# EAGLE library part ATMEGA328P-MMH (library Thesis_Lib)
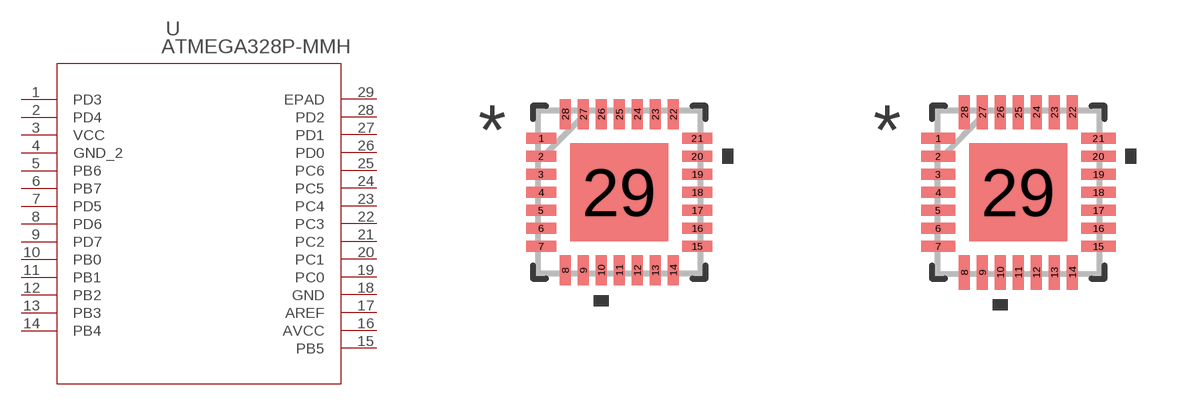
[diagram p6: symbol with the pads of 28M1; footprints 28M1, 28M1-M]

Designator prefix U

## ATMEGA328P-MMH (MANUFACTURER_PART_NUMBER: ATMEGA328PMMH; VENDOR: ATMEL)  [28M1]
1  PD3
2  PD4
3  VCC  pwr
4  GND_2  pwr
5  PB6
6  PB7
7  PD5
8  PD6
9  PD7
10  PB0
11  PB1
12  PB2
13  PB3
14  PB4
15  PB5
16  AVCC  pwr
17  AREF  pas
18  GND  pwr
19  PC0
20  PC1
21  PC2
22  PC3
23  PC4
24  PC5
25  PC6
26  PD0
27  PD1
28  PD2
29  EPAD  pas

## ATMEGA328P-MMH28M1-M (MANUFACTURER_PART_NUMBER: ATMEGA328PMMH; VENDOR: ATMEL)  [28M1-M]
Pads as for 28M1

## ATMEGA328P-MMH28M1-L (MANUFACTURER_PART_NUMBER: ATMEGA328PMMH; VENDOR: ATMEL)  [28M1-L]
Pads as for 28M1

## Footprint 28M1 (pad centres in mm)
smd 0.755 x 0.27: 1 -1.952,1.35; 2 -1.952,0.9; 3 -1.952,0.45; 4 -1.952,0; 5 -1.952,-0.45; 6 -1.952,-0.9; 7 -1.952,-1.35; 15 1.952,-1.35; 16 1.952,-0.9; 17 1.952,-0.45; 18 1.952,0; 19 1.952,0.45; 20 1.952,0.9; 21 1.952,1.35
smd 0.27 x 0.755: 8 -1.35,-1.952; 9 -0.9,-1.952; 10 -0.45,-1.952; 11 0,-1.952; 12 0.45,-1.952; 13 0.9,-1.952; 14 1.35,-1.952; 22 1.35,1.952; 23 0.9,1.952; 24 0.45,1.952; 25 0,1.952; 26 -0.45,1.952; 27 -0.9,1.952; 28 -1.35,1.952
smd 2.45 x 2.45: 29 0,0

## Footprint 28M1-M (pad centres in mm)
smd 0.856 x 0.27: 1 -2.003,1.35; 2 -2.003,0.9; 3 -2.003,0.45; 4 -2.003,0; 5 -2.003,-0.45; 6 -2.003,-0.9; 7 -2.003,-1.35; 15 2.003,-1.35; 16 2.003,-0.9; 17 2.003,-0.45; 18 2.003,0; 19 2.003,0.45; 20 2.003,0.9; 21 2.003,1.35
smd 0.27 x 0.856: 8 -1.35,-2.003; 9 -0.9,-2.003; 10 -0.45,-2.003; 11 0,-2.003; 12 0.45,-2.003; 13 0.9,-2.003; 14 1.35,-2.003; 22 1.35,2.003; 23 0.9,2.003; 24 0.45,2.003; 25 0,2.003; 26 -0.45,2.003; 27 -0.9,2.003; 28 -1.35,2.003
smd 2.45 x 2.45: 29 0,0

## Footprint 28M1-L (pad centres in mm)
smd 0.653 x 0.27: 1 -1.902,1.35; 2 -1.902,0.9; 3 -1.902,0.45; 4 -1.902,0; 5 -1.902,-0.45; 6 -1.902,-0.9; 7 -1.902,-1.35; 15 1.902,-1.35; 16 1.902,-0.9; 17 1.902,-0.45; 18 1.902,0; 19 1.902,0.45; 20 1.902,0.9; 21 1.902,1.35
smd 0.27 x 0.653: 8 -1.35,-1.902; 9 -0.9,-1.902; 10 -0.45,-1.902; 11 0,-1.902; 12 0.45,-1.902; 13 0.9,-1.902; 14 1.35,-1.902; 22 1.35,1.902; 23 0.9,1.902; 24 0.45,1.902; 25 0,1.902; 26 -0.45,1.902; 27 -0.9,1.902; 28 -1.35,1.902
smd 2.45 x 2.45: 29 0,0